# EAGLE library part 1X08 (library headers)
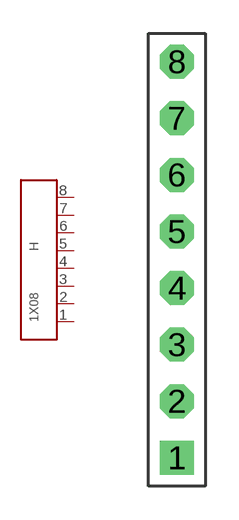
[diagram p4: symbol with the pads of DIP0.1-1X08; footprint DIP0.1-1X08]

Designator prefix H

## 1X08  [DIP0.1-1X08]
1  1
2  2
3  3
4  4
5  5
6  6
7  7
8  8

## Footprint DIP0.1-1X08 (pad centres in mm)
drill 1.016 square: 1 0,-8.89
drill 1.016 octagon: 2 0,-6.35; 3 0,-3.81; 4 0,-1.27; 5 0,1.27; 6 0,3.81; 7 0,6.35; 8 0,8.89